# Altium schematic symbol library Batteries.SchLib: 1 symbol
Pins are listed as number, name and electrical type; pins without a type are passive.

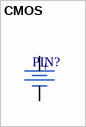
[diagram p0: symbol CMOS]

## CMOS
designator PIN?, comment PIN  (value not drawn)
footprint CR1220-SMD
pins: 1, 2
text: +